# Altium schematic symbol library kmilo17pet-TI_MSP430.SchLib: 1463 symbols (part 30 of 130)
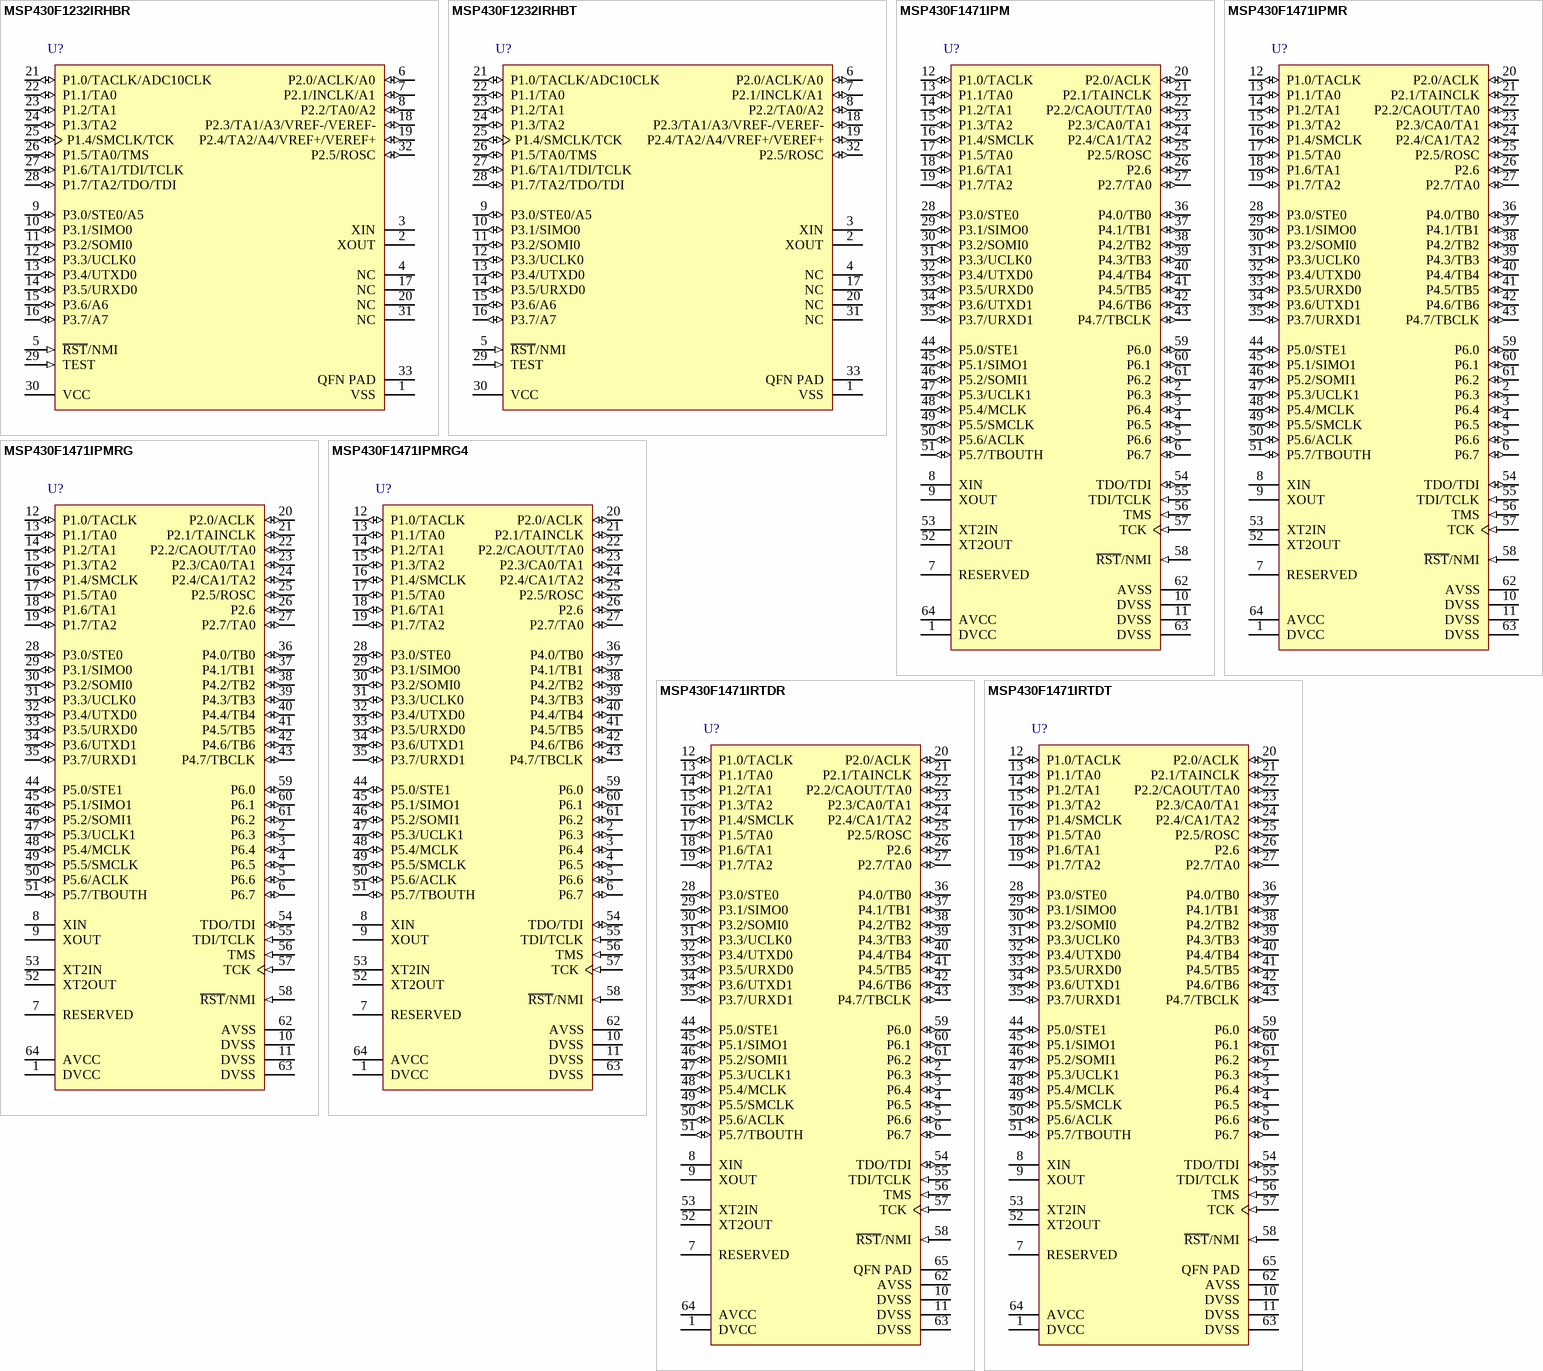
[diagram p351: symbols MSP430F1232IRHBR to MSP430F1471IRTDT]

## MSP430F1232IRHBR
designator U?
8 MHz Mixed Signal Microcontroller with 8 KB Flash, 256 B SRAM and 22 GPIOs, -40 to 85 degC, 32-pin QFN (RHB), Green (RoHS & no Sb/Br); Manufacturer: Texas Instruments; PartNumber: MSP430F1232IRHBR; ADC: 10-bit SAR; ADC Channels: 8; Brown Out Reset: Yes; GPIO: 22; SRAM(B): 256; SubFamily: 1 Series; Timers - 16-bit: 1; DatasheetVersion: SLAS361D; PackageVersion: 4204326/D; PackageReference: RHB32-3450X3450TP; PackageDescription: 32-Pin Plastic Flat Pack, Body 5 x 5 mm, Pitch 0.5 mm; Supplier 1: Digi-Key; Supplier Part Number 1: 296-16795-2-ND; Supplier 2: Digi-Key; Supplier Part Number 2: 296-16795-1-ND; Supplier 3: Digi-Key; Supplier Part Number 3: 296-16795-6-ND; Supplier 4: Farnell; Supplier Part Number 4: 1903424; Supplier 5: Newark; Supplier Part Number 5: 01J0578; Supplier 6: Mouser; Supplier Part Number 6: 595-430F1232IRHBR; Eco-Plan: Green (RoHS & no Sb/Br); Flash(KB): 8; Frequency(MHz): 8; Temp Sensor: Yes; USART: 1; Watchdog: Yes; Mounting Technology: Surface Mount; Code_JEDEC: MO-220; ComponentLink1Description: Manufacturer URL; ComponentLink1URL: http://www.ti.com/; ComponentLink2Description: Datasheet; ComponentLink2URL: http://www.ti.com/general/docs/lit/getliterature.tsp?genericPartNumber=MSP430F1232&fileType=pdf; ComponentLink3Description: Package Specification; ComponentLink3URL: http://www.ti.com/lit/ml/mpqf130c/mpqf130c.pdf
footprint TI-RHB32-3450X3450TP_N (QFN, 32-Leads, Body 5x5mm, Pitch 0.5mm, Thermal Pad 3.45x3.45mm, IPC Medium Density)
pins: 1 VSS (power) "Ground reference", 2 XOUT "Output terminal of crystal oscillator", 3 XIN "Input terminal of crystal oscillator", 4 NC "Not connected internally. Recommended connection to VSS.", 5 ~{RST}/NMI (in), 6 P2.0/ACLK/A0 (io), 7 P2.1/INCLK/A1 (io), 8 P2.2/TA0/A2 (io), 9 P3.0/STE0/A5 (io), 10 P3.1/SIMO0 (io), 11 P3.2/SOMI0 (io), 12 P3.3/UCLK0 (io), 13 P3.4/UTXD0 (io), 14 P3.5/URXD0 (io), 15 P3.6/A6 (io), 16 P3.7/A7 (io), 17 NC "Not connected internally. Recommended connection to VSS.", 18 P2.3/TA1/A3/VREF-/VEREF- (io), 19 P2.4/TA2/A4/VREF+/VEREF+ (io), 20 NC "Not connected internally. Recommended connection to VSS.", 21 P1.0/TACLK/ADC10CLK (io), 22 P1.1/TA0 (io), 23 P1.2/TA1 (io), 24 P1.3/TA2 (io), 25 P1.4/SMCLK/TCK (io), 26 P1.5/TA0/TMS (io), 27 P1.6/TA1/TDI/TCLK (io), 28 P1.7/TA2/TDO/TDI (io), 29 TEST (in) "Selects test mode for JTAG pins on P1.x", 30 VCC (power) "Supply voltage", 31 NC "Not connected internally. Recommended connection to VSS.", 32 P2.5/ROSC (io), 33 QFN PAD (power) "QFN package pad connection to VSS recommended."

## MSP430F1232IRHBT
designator U?
8 MHz Mixed Signal Microcontroller with 8 KB Flash, 256 B SRAM and 22 GPIOs, -40 to 85 degC, 32-pin QFN (RHB), Green (RoHS & no Sb/Br); Manufacturer: Texas Instruments; PartNumber: MSP430F1232IRHBT; ADC: 10-bit SAR; ADC Channels: 8; Brown Out Reset: Yes; GPIO: 22; SRAM(B): 256; SubFamily: 1 Series; Timers - 16-bit: 1; DatasheetVersion: SLAS361D; PackageVersion: 4204326/D; PackageReference: RHB32-3450X3450TP; PackageDescription: 32-Pin Plastic Flat Pack, Body 5 x 5 mm, Pitch 0.5 mm; Supplier 1: Digi-Key; Supplier Part Number 1: 296-26178-2-ND; Supplier 2: Digi-Key; Supplier Part Number 2: 296-26178-1-ND; Supplier 3: Digi-Key; Supplier Part Number 3: 296-26178-6-ND; Supplier 4: Newark; Supplier Part Number 4: 01J0579; Supplier 5: Mouser; Supplier Part Number 5: 595-430F1232IRHBT; Eco-Plan: Green (RoHS & no Sb/Br); Flash(KB): 8; Frequency(MHz): 8; Temp Sensor: Yes; USART: 1; Watchdog: Yes; Mounting Technology: Surface Mount; Code_JEDEC: MO-220; ComponentLink1Description: Manufacturer URL; ComponentLink1URL: http://www.ti.com/; ComponentLink2Description: Datasheet; ComponentLink2URL: http://www.ti.com/general/docs/lit/getliterature.tsp?genericPartNumber=MSP430F1232&fileType=pdf; ComponentLink3Description: Package Specification; ComponentLink3URL: http://www.ti.com/lit/ml/mpqf130c/mpqf130c.pdf
footprint TI-RHB32-3450X3450TP_N (QFN, 32-Leads, Body 5x5mm, Pitch 0.5mm, Thermal Pad 3.45x3.45mm, IPC Medium Density)
pins: 1 VSS (power) "Ground reference", 2 XOUT "Output terminal of crystal oscillator", 3 XIN "Input terminal of crystal oscillator", 4 NC "Not connected internally. Recommended connection to VSS.", 5 ~{RST}/NMI (in), 6 P2.0/ACLK/A0 (io), 7 P2.1/INCLK/A1 (io), 8 P2.2/TA0/A2 (io), 9 P3.0/STE0/A5 (io), 10 P3.1/SIMO0 (io), 11 P3.2/SOMI0 (io), 12 P3.3/UCLK0 (io), 13 P3.4/UTXD0 (io), 14 P3.5/URXD0 (io), 15 P3.6/A6 (io), 16 P3.7/A7 (io), 17 NC "Not connected internally. Recommended connection to VSS.", 18 P2.3/TA1/A3/VREF-/VEREF- (io), 19 P2.4/TA2/A4/VREF+/VEREF+ (io), 20 NC "Not connected internally. Recommended connection to VSS.", 21 P1.0/TACLK/ADC10CLK (io), 22 P1.1/TA0 (io), 23 P1.2/TA1 (io), 24 P1.3/TA2 (io), 25 P1.4/SMCLK/TCK (io), 26 P1.5/TA0/TMS (io), 27 P1.6/TA1/TDI/TCLK (io), 28 P1.7/TA2/TDO/TDI (io), 29 TEST (in) "Selects test mode for JTAG pins on P1.x", 30 VCC (power) "Supply voltage", 31 NC "Not connected internally. Recommended connection to VSS.", 32 P2.5/ROSC (io), 33 QFN PAD (power) "QFN package pad connection to VSS recommended."

## MSP430F1471IPM
designator U?
8 MHz Mixed Signal Microcontroller with 32 KB Flash, 1024 B SRAM and 48 GPIOs, -40 to 85 degC, 64-pin QFP (PM), Green (RoHS & no Sb/Br); Manufacturer: Texas Instruments; PartNumber: MSP430F1471IPM; ADC: Slope; Comparators: Yes; Flash(KB): 32; Frequency(MHz): 8; GPIO: 48; Multiplier: 16x16; SRAM(B): 1024; SubFamily: 1 Series; Timers - 16-bit: 2; DatasheetVersion: SLAS272F; PackageVersion: 4040152/C; PackageReference: PM64; PackageDescription: 64-Pin Plastic Quad Flat Pack, Body 10 x 10 mm, Pitch 0.5 mm; Supplier 1: Digi-Key; Supplier Part Number 1: 296-15701-ND; Supplier 2: Farnell; Supplier Part Number 2: 1537163; Supplier 3: Newark; Supplier Part Number 3: 82H5135; Supplier 4: Mouser; Supplier Part Number 4: 595-430F1471IPM; Eco-Plan: Green (RoHS & no Sb/Br); USART: 2; Watchdog: Yes; Mounting Technology: Surface Mount; Code_JEDEC: MS-026; ComponentLink1Description: Manufacturer URL; ComponentLink1URL: http://www.ti.com/; ComponentLink2Description: Datasheet; ComponentLink2URL: http://www.ti.com/general/docs/lit/getliterature.tsp?genericPartNumber=MSP430F1471&fileType=pdf; ComponentLink3Description: Package Specification; ComponentLink3URL: http://www.ti.com/lit/ml/mtqf008a/mtqf008a.pdf
footprint TI-PM64_N (QFP, 64-Leads, Body 10x10mm, Pitch 0.5mm, IPC Medium Density)
pins: 1 DVCC (power) "Digital supply voltage, positive terminal. Supplies all digital parts.", 2 P6.3 (io) "General-purpose digital I/O pin", 3 P6.4 (io) "General-purpose digital I/O pin", 4 P6.5 (io) "General-purpose digital I/O pin", 5 P6.6 (io) "General-purpose digital I/O pin", 6 P6.7 (io) "General-purpose digital I/O pin", 7 RESERVED "Reserved, do not connect externally", 8 XIN "Input port for crystal oscillator XT1. Standard or watch crystals can be connected.", 9 XOUT "Output terminal of crystal oscillator XT1", 10 DVSS (power) "Connect to DVSS", 11 DVSS (power) "Connect to DVSS", 12 P1.0/TACLK (io), 13 P1.1/TA0 (io), 14 P1.2/TA1 (io), 15 P1.3/TA2 (io), 16 P1.4/SMCLK (io), 17 P1.5/TA0 (io), 18 P1.6/TA1 (io), 19 P1.7/TA2 (io), 20 P2.0/ACLK (io), 21 P2.1/TAINCLK (io), 22 P2.2/CAOUT/TA0 (io), 23 P2.3/CA0/TA1 (io), 24 P2.4/CA1/TA2 (io), 25 P2.5/ROSC (io), 26 P2.6 (io) "General-purpose digital I/O pin", 27 P2.7/TA0 (io), 28 P3.0/STE0 (io), 29 P3.1/SIMO0 (io), 30 P3.2/SOMI0 (io), 31 P3.3/UCLK0 (io), 32 P3.4/UTXD0 (io), 33 P3.5/URXD0 (io), 34 P3.6/UTXD1 (io), 35 P3.7/URXD1 (io), 36 P4.0/TB0 (io), 37 P4.1/TB1 (io), 38 P4.2/TB2 (io), 39 P4.3/TB3 (io), 40 P4.4/TB4 (io), 41 P4.5/TB5 (io), 42 P4.6/TB6 (io), 43 P4.7/TBCLK (io), 44 P5.0/STE1 (io), 45 P5.1/SIMO1 (io), 46 P5.2/SOMI1 (io), 47 P5.3/UCLK1 (io), 48 P5.4/MCLK (io), 49 P5.5/SMCLK (io), 50 P5.6/ACLK (io), 51 P5.7/TBOUTH (io), 52 XT2OUT "Output terminal of crystal oscillator XT2", 53 XT2IN "Input port for crystal oscillator XT2. Only standard crystals can be connected.", 54 TDO/TDI (io), 55 TDI/TCLK (in), 56 TMS (in) "Test mode select. TMS is used as an input port for device programming and test.", 57 TCK (in) "Test clock. TCK is the clock input port for device programming test and bootstrap loader start (in Flash devices).", 58 ~{RST}/NMI (in), 59 P6.0 (io) "General-purpose digital I/O pin", 60 P6.1 (io) "General-purpose digital I/O pin", 61 P6.2 (io) "General-purpose digital I/O pin", 62 AVSS (power) "Analog supply voltage, negative terminal.", 63 DVSS (power) "Digital supply voltage, negative terminal. Supplies all digital parts.", 64 AVCC (power) "Analog supply voltage, positive terminal."

## MSP430F1471IPMR
designator U?
8 MHz Mixed Signal Microcontroller with 32 KB Flash, 1024 B SRAM and 48 GPIOs, -40 to 85 degC, 64-pin QFP (PM), Green (RoHS & no Sb/Br); Manufacturer: Texas Instruments; PartNumber: MSP430F1471IPMR; ADC: Slope; Comparators: Yes; Flash(KB): 32; Frequency(MHz): 8; GPIO: 48; Multiplier: 16x16; SRAM(B): 1024; SubFamily: 1 Series; Timers - 16-bit: 2; DatasheetVersion: SLAS272F; PackageVersion: 4040152/C; PackageReference: PM64; PackageDescription: 64-Pin Plastic Quad Flat Pack, Body 10 x 10 mm, Pitch 0.5 mm; Supplier 1: Digi-Key; Supplier Part Number 1: MSP430F1471IPMR-ND; Supplier 2: Newark; Supplier Part Number 2: 82H5136; Supplier 3: Mouser; Supplier Part Number 3: 595-430F1471IPMR; Eco-Plan: Green (RoHS & no Sb/Br); USART: 2; Watchdog: Yes; Mounting Technology: Surface Mount; Code_JEDEC: MS-026; ComponentLink1Description: Manufacturer URL; ComponentLink1URL: http://www.ti.com/; ComponentLink2Description: Datasheet; ComponentLink2URL: http://www.ti.com/general/docs/lit/getliterature.tsp?genericPartNumber=MSP430F1471&fileType=pdf; ComponentLink3Description: Package Specification; ComponentLink3URL: http://www.ti.com/lit/ml/mtqf008a/mtqf008a.pdf
footprint TI-PM64_N (QFP, 64-Leads, Body 10x10mm, Pitch 0.5mm, IPC Medium Density)
pins: 1 DVCC (power) "Digital supply voltage, positive terminal. Supplies all digital parts.", 2 P6.3 (io) "General-purpose digital I/O pin", 3 P6.4 (io) "General-purpose digital I/O pin", 4 P6.5 (io) "General-purpose digital I/O pin", 5 P6.6 (io) "General-purpose digital I/O pin", 6 P6.7 (io) "General-purpose digital I/O pin", 7 RESERVED "Reserved, do not connect externally", 8 XIN "Input port for crystal oscillator XT1. Standard or watch crystals can be connected.", 9 XOUT "Output terminal of crystal oscillator XT1", 10 DVSS (power) "Connect to DVSS", 11 DVSS (power) "Connect to DVSS", 12 P1.0/TACLK (io), 13 P1.1/TA0 (io), 14 P1.2/TA1 (io), 15 P1.3/TA2 (io), 16 P1.4/SMCLK (io), 17 P1.5/TA0 (io), 18 P1.6/TA1 (io), 19 P1.7/TA2 (io), 20 P2.0/ACLK (io), 21 P2.1/TAINCLK (io), 22 P2.2/CAOUT/TA0 (io), 23 P2.3/CA0/TA1 (io), 24 P2.4/CA1/TA2 (io), 25 P2.5/ROSC (io), 26 P2.6 (io) "General-purpose digital I/O pin", 27 P2.7/TA0 (io), 28 P3.0/STE0 (io), 29 P3.1/SIMO0 (io), 30 P3.2/SOMI0 (io), 31 P3.3/UCLK0 (io), 32 P3.4/UTXD0 (io), 33 P3.5/URXD0 (io), 34 P3.6/UTXD1 (io), 35 P3.7/URXD1 (io), 36 P4.0/TB0 (io), 37 P4.1/TB1 (io), 38 P4.2/TB2 (io), 39 P4.3/TB3 (io), 40 P4.4/TB4 (io), 41 P4.5/TB5 (io), 42 P4.6/TB6 (io), 43 P4.7/TBCLK (io), 44 P5.0/STE1 (io), 45 P5.1/SIMO1 (io), 46 P5.2/SOMI1 (io), 47 P5.3/UCLK1 (io), 48 P5.4/MCLK (io), 49 P5.5/SMCLK (io), 50 P5.6/ACLK (io), 51 P5.7/TBOUTH (io), 52 XT2OUT "Output terminal of crystal oscillator XT2", 53 XT2IN "Input port for crystal oscillator XT2. Only standard crystals can be connected.", 54 TDO/TDI (io), 55 TDI/TCLK (in), 56 TMS (in) "Test mode select. TMS is used as an input port for device programming and test.", 57 TCK (in) "Test clock. TCK is the clock input port for device programming test and bootstrap loader start (in Flash devices).", 58 ~{RST}/NMI (in), 59 P6.0 (io) "General-purpose digital I/O pin", 60 P6.1 (io) "General-purpose digital I/O pin", 61 P6.2 (io) "General-purpose digital I/O pin", 62 AVSS (power) "Analog supply voltage, negative terminal.", 63 DVSS (power) "Digital supply voltage, negative terminal. Supplies all digital parts.", 64 AVCC (power) "Analog supply voltage, positive terminal."

## MSP430F1471IPMRG
designator U?
8 MHz Mixed Signal Microcontroller with 32 KB Flash, 1024 B SRAM and 48 GPIOs, -40 to 85 degC, 64-pin QFP (PM); Manufacturer: Texas Instruments; PartNumber: MSP430F1471IPMRG; ADC: Slope; Comparators: Yes; Flash(KB): 32; Frequency(MHz): 8; GPIO: 48; Multiplier: 16x16; SRAM(B): 1024; SubFamily: 1 Series; Timers - 16-bit: 2; DatasheetVersion: SLAS272F; PackageVersion: 4040152/C; PackageReference: PM64; PackageDescription: 64-Pin Plastic Quad Flat Pack, Body 10 x 10 mm, Pitch 0.5 mm; Supplier 1: Digi-Key; Supplier Part Number 1: MSP430F1471IPMRG-ND; Supplier 2: Mouser; Supplier Part Number 2: 595-MSP430F1471IPMRG; USART: 2; Watchdog: Yes; Mounting Technology: Surface Mount; Code_JEDEC: MS-026; ComponentLink1Description: Manufacturer URL; ComponentLink1URL: http://www.ti.com/; ComponentLink2Description: Datasheet; ComponentLink2URL: http://www.ti.com/general/docs/lit/getliterature.tsp?genericPartNumber=MSP430F1471&fileType=pdf; ComponentLink3Description: Package Specification; ComponentLink3URL: http://www.ti.com/lit/ml/mtqf008a/mtqf008a.pdf
footprint TI-PM64_N (QFP, 64-Leads, Body 10x10mm, Pitch 0.5mm, IPC Medium Density)
pins: 1 DVCC (power) "Digital supply voltage, positive terminal. Supplies all digital parts.", 2 P6.3 (io) "General-purpose digital I/O pin", 3 P6.4 (io) "General-purpose digital I/O pin", 4 P6.5 (io) "General-purpose digital I/O pin", 5 P6.6 (io) "General-purpose digital I/O pin", 6 P6.7 (io) "General-purpose digital I/O pin", 7 RESERVED "Reserved, do not connect externally", 8 XIN "Input port for crystal oscillator XT1. Standard or watch crystals can be connected.", 9 XOUT "Output terminal of crystal oscillator XT1", 10 DVSS (power) "Connect to DVSS", 11 DVSS (power) "Connect to DVSS", 12 P1.0/TACLK (io), 13 P1.1/TA0 (io), 14 P1.2/TA1 (io), 15 P1.3/TA2 (io), 16 P1.4/SMCLK (io), 17 P1.5/TA0 (io), 18 P1.6/TA1 (io), 19 P1.7/TA2 (io), 20 P2.0/ACLK (io), 21 P2.1/TAINCLK (io), 22 P2.2/CAOUT/TA0 (io), 23 P2.3/CA0/TA1 (io), 24 P2.4/CA1/TA2 (io), 25 P2.5/ROSC (io), 26 P2.6 (io) "General-purpose digital I/O pin", 27 P2.7/TA0 (io), 28 P3.0/STE0 (io), 29 P3.1/SIMO0 (io), 30 P3.2/SOMI0 (io), 31 P3.3/UCLK0 (io), 32 P3.4/UTXD0 (io), 33 P3.5/URXD0 (io), 34 P3.6/UTXD1 (io), 35 P3.7/URXD1 (io), 36 P4.0/TB0 (io), 37 P4.1/TB1 (io), 38 P4.2/TB2 (io), 39 P4.3/TB3 (io), 40 P4.4/TB4 (io), 41 P4.5/TB5 (io), 42 P4.6/TB6 (io), 43 P4.7/TBCLK (io), 44 P5.0/STE1 (io), 45 P5.1/SIMO1 (io), 46 P5.2/SOMI1 (io), 47 P5.3/UCLK1 (io), 48 P5.4/MCLK (io), 49 P5.5/SMCLK (io), 50 P5.6/ACLK (io), 51 P5.7/TBOUTH (io), 52 XT2OUT "Output terminal of crystal oscillator XT2", 53 XT2IN "Input port for crystal oscillator XT2. Only standard crystals can be connected.", 54 TDO/TDI (io), 55 TDI/TCLK (in), 56 TMS (in) "Test mode select. TMS is used as an input port for device programming and test.", 57 TCK (in) "Test clock. TCK is the clock input port for device programming test and bootstrap loader start (in Flash devices).", 58 ~{RST}/NMI (in), 59 P6.0 (io) "General-purpose digital I/O pin", 60 P6.1 (io) "General-purpose digital I/O pin", 61 P6.2 (io) "General-purpose digital I/O pin", 62 AVSS (power) "Analog supply voltage, negative terminal.", 63 DVSS (power) "Digital supply voltage, negative terminal. Supplies all digital parts.", 64 AVCC (power) "Analog supply voltage, positive terminal."

## MSP430F1471IPMRG4
designator U?
8 MHz Mixed Signal Microcontroller with 32 KB Flash, 1024 B SRAM and 48 GPIOs, -40 to 85 degC, 64-pin QFP (PM), Green (RoHS & no Sb/Br); Manufacturer: Texas Instruments; PartNumber: MSP430F1471IPMRG4; ADC: Slope; Comparators: Yes; Flash(KB): 32; Frequency(MHz): 8; GPIO: 48; Multiplier: 16x16; SRAM(B): 1024; SubFamily: 1 Series; Timers - 16-bit: 2; DatasheetVersion: SLAS272F; PackageVersion: 4040152/C; PackageReference: PM64; PackageDescription: 64-Pin Plastic Quad Flat Pack, Body 10 x 10 mm, Pitch 0.5 mm; Supplier 1: Digi-Key; Supplier Part Number 1: MSP430F1471IPMRG4-ND; Supplier 2: Mouser; Supplier Part Number 2: 595-MSP430F1471IPMG4; Eco-Plan: Green (RoHS & no Sb/Br); USART: 2; Watchdog: Yes; Mounting Technology: Surface Mount; Code_JEDEC: MS-026; ComponentLink1Description: Manufacturer URL; ComponentLink1URL: http://www.ti.com/; ComponentLink2Description: Datasheet; ComponentLink2URL: http://www.ti.com/general/docs/lit/getliterature.tsp?genericPartNumber=MSP430F1471&fileType=pdf; ComponentLink3Description: Package Specification; ComponentLink3URL: http://www.ti.com/lit/ml/mtqf008a/mtqf008a.pdf
footprint TI-PM64_N (QFP, 64-Leads, Body 10x10mm, Pitch 0.5mm, IPC Medium Density)
pins: 1 DVCC (power) "Digital supply voltage, positive terminal. Supplies all digital parts.", 2 P6.3 (io) "General-purpose digital I/O pin", 3 P6.4 (io) "General-purpose digital I/O pin", 4 P6.5 (io) "General-purpose digital I/O pin", 5 P6.6 (io) "General-purpose digital I/O pin", 6 P6.7 (io) "General-purpose digital I/O pin", 7 RESERVED "Reserved, do not connect externally", 8 XIN "Input port for crystal oscillator XT1. Standard or watch crystals can be connected.", 9 XOUT "Output terminal of crystal oscillator XT1", 10 DVSS (power) "Connect to DVSS", 11 DVSS (power) "Connect to DVSS", 12 P1.0/TACLK (io), 13 P1.1/TA0 (io), 14 P1.2/TA1 (io), 15 P1.3/TA2 (io), 16 P1.4/SMCLK (io), 17 P1.5/TA0 (io), 18 P1.6/TA1 (io), 19 P1.7/TA2 (io), 20 P2.0/ACLK (io), 21 P2.1/TAINCLK (io), 22 P2.2/CAOUT/TA0 (io), 23 P2.3/CA0/TA1 (io), 24 P2.4/CA1/TA2 (io), 25 P2.5/ROSC (io), 26 P2.6 (io) "General-purpose digital I/O pin", 27 P2.7/TA0 (io), 28 P3.0/STE0 (io), 29 P3.1/SIMO0 (io), 30 P3.2/SOMI0 (io), 31 P3.3/UCLK0 (io), 32 P3.4/UTXD0 (io), 33 P3.5/URXD0 (io), 34 P3.6/UTXD1 (io), 35 P3.7/URXD1 (io), 36 P4.0/TB0 (io), 37 P4.1/TB1 (io), 38 P4.2/TB2 (io), 39 P4.3/TB3 (io), 40 P4.4/TB4 (io), 41 P4.5/TB5 (io), 42 P4.6/TB6 (io), 43 P4.7/TBCLK (io), 44 P5.0/STE1 (io), 45 P5.1/SIMO1 (io), 46 P5.2/SOMI1 (io), 47 P5.3/UCLK1 (io), 48 P5.4/MCLK (io), 49 P5.5/SMCLK (io), 50 P5.6/ACLK (io), 51 P5.7/TBOUTH (io), 52 XT2OUT "Output terminal of crystal oscillator XT2", 53 XT2IN "Input port for crystal oscillator XT2. Only standard crystals can be connected.", 54 TDO/TDI (io), 55 TDI/TCLK (in), 56 TMS (in) "Test mode select. TMS is used as an input port for device programming and test.", 57 TCK (in) "Test clock. TCK is the clock input port for device programming test and bootstrap loader start (in Flash devices).", 58 ~{RST}/NMI (in), 59 P6.0 (io) "General-purpose digital I/O pin", 60 P6.1 (io) "General-purpose digital I/O pin", 61 P6.2 (io) "General-purpose digital I/O pin", 62 AVSS (power) "Analog supply voltage, negative terminal.", 63 DVSS (power) "Digital supply voltage, negative terminal. Supplies all digital parts.", 64 AVCC (power) "Analog supply voltage, positive terminal."

## MSP430F1471IRTDR
designator U?
8 MHz Mixed Signal Microcontroller with 32 KB Flash, 1024 B SRAM and 48 GPIOs, 64-pin QFN (RTD), Green (RoHS & no Sb/Br); Manufacturer: Texas Instruments; PartNumber: MSP430F1471IRTDR; ADC: Slope; Comparators: Yes; Flash(KB): 32; Frequency(MHz): 8; GPIO: 48; Multiplier: 16x16; SRAM(B): 1024; SubFamily: 1 Series; Timers - 16-bit: 2; DatasheetVersion: SLAS272F; PackageReference: RTD64; PackageDescription: 64-Pin Plastic Flat Pack, Body 9 x 9 mm, Pitch 0.5 mm; Supplier 1: Digi-Key; Supplier Part Number 1: MSP430F1471IRTDR-ND; Supplier 2: Newark; Supplier Part Number 2: 21J8833; Supplier 3: Mouser; Supplier Part Number 3: 595-MSP430F1471IRTDR; Eco-Plan: Green (RoHS & no Sb/Br); USART: 2; Watchdog: Yes; Mounting Technology: Surface Mount; ComponentLink1Description: Manufacturer URL; ComponentLink1URL: http://www.ti.com/; ComponentLink2Description: Datasheet; ComponentLink2URL: http://www.ti.com/general/docs/lit/getliterature.tsp?genericPartNumber=MSP430F1471&fileType=pdf; ComponentLink3Description: Package Specification; ComponentLink3URL: http://www.ti.com/lit/ds/symlink/msp430f1471.pdf
footprint TI-RTD64-4700X4700TP_N (QFN, 64-Leads, Body 9x9mm, Pitch 0.5mm, Thermal Pad 4.7x4.7mm, IPC Medium Density)
pins: 1 DVCC (power) "Digital supply voltage, positive terminal. Supplies all digital parts.", 2 P6.3 (io) "General-purpose digital I/O pin", 3 P6.4 (io) "General-purpose digital I/O pin", 4 P6.5 (io) "General-purpose digital I/O pin", 5 P6.6 (io) "General-purpose digital I/O pin", 6 P6.7 (io) "General-purpose digital I/O pin", 7 RESERVED "Reserved, do not connect externally", 8 XIN "Input port for crystal oscillator XT1. Standard or watch crystals can be connected.", 9 XOUT "Output terminal of crystal oscillator XT1", 10 DVSS (power) "Connect to DVSS", 11 DVSS (power) "Connect to DVSS", 12 P1.0/TACLK (io), 13 P1.1/TA0 (io), 14 P1.2/TA1 (io), 15 P1.3/TA2 (io), 16 P1.4/SMCLK (io), 17 P1.5/TA0 (io), 18 P1.6/TA1 (io), 19 P1.7/TA2 (io), 20 P2.0/ACLK (io), 21 P2.1/TAINCLK (io), 22 P2.2/CAOUT/TA0 (io), 23 P2.3/CA0/TA1 (io), 24 P2.4/CA1/TA2 (io), 25 P2.5/ROSC (io), 26 P2.6 (io) "General-purpose digital I/O pin", 27 P2.7/TA0 (io), 28 P3.0/STE0 (io), 29 P3.1/SIMO0 (io), 30 P3.2/SOMI0 (io), 31 P3.3/UCLK0 (io), 32 P3.4/UTXD0 (io), 33 P3.5/URXD0 (io), 34 P3.6/UTXD1 (io), 35 P3.7/URXD1 (io), 36 P4.0/TB0 (io), 37 P4.1/TB1 (io), 38 P4.2/TB2 (io), 39 P4.3/TB3 (io), 40 P4.4/TB4 (io), 41 P4.5/TB5 (io), 42 P4.6/TB6 (io), 43 P4.7/TBCLK (io), 44 P5.0/STE1 (io), 45 P5.1/SIMO1 (io), 46 P5.2/SOMI1 (io), 47 P5.3/UCLK1 (io), 48 P5.4/MCLK (io), 49 P5.5/SMCLK (io), 50 P5.6/ACLK (io), 51 P5.7/TBOUTH (io), 52 XT2OUT "Output terminal of crystal oscillator XT2", 53 XT2IN "Input port for crystal oscillator XT2. Only standard crystals can be connected.", 54 TDO/TDI (io), 55 TDI/TCLK (in), 56 TMS (in) "Test mode select. TMS is used as an input port for device programming and test.", 57 TCK (in) "Test clock. TCK is the clock input port for device programming test and bootstrap loader start (in Flash devices).", 58 ~{RST}/NMI (in), 59 P6.0 (io) "General-purpose digital I/O pin", 60 P6.1 (io) "General-purpose digital I/O pin", 61 P6.2 (io) "General-purpose digital I/O pin", 62 AVSS (power) "Analog supply voltage, negative terminal. Supplies the analog portion of the analog-to-digital converter.", 63 DVSS (power) "Digital supply voltage, negative terminal. Supplies all digital parts.", 64 AVCC (power) "Analog supply voltage, positive terminal. Supplies the analog portion of the analog-to-digital converter.", 65 QFN PAD (power) "QFN package pad connection to DVSS recommended."

## MSP430F1471IRTDT
designator U?
8 MHz Mixed Signal Microcontroller with 32 KB Flash, 1024 B SRAM and 48 GPIOs, 64-pin QFN (RTD), Green (RoHS & no Sb/Br); Manufacturer: Texas Instruments; PartNumber: MSP430F1471IRTDT; ADC: Slope; Comparators: Yes; Flash(KB): 32; Frequency(MHz): 8; GPIO: 48; Multiplier: 16x16; SRAM(B): 1024; SubFamily: 1 Series; Timers - 16-bit: 2; DatasheetVersion: SLAS272F; PackageReference: RTD64; PackageDescription: 64-Pin Plastic Flat Pack, Body 9 x 9 mm, Pitch 0.5 mm; Supplier 1: Digi-Key; Supplier Part Number 1: 296-17143-2-ND; Supplier 2: Digi-Key; Supplier Part Number 2: 296-17143-1-ND; Supplier 3: Digi-Key; Supplier Part Number 3: 296-17143-6-ND; Supplier 4: Farnell; Supplier Part Number 4: 1537164; Supplier 5: Farnell; Supplier Part Number 5: 1899534; Supplier 6: Newark; Supplier Part Number 6: 21J8834; Supplier 7: Mouser; Supplier Part Number 7: 595-MSP430F1471IRTDT; Eco-Plan: Green (RoHS & no Sb/Br); USART: 2; Watchdog: Yes; Mounting Technology: Surface Mount; ComponentLink1Description: Manufacturer URL; ComponentLink1URL: http://www.ti.com/; ComponentLink2Description: Datasheet; ComponentLink2URL: http://www.ti.com/general/docs/lit/getliterature.tsp?genericPartNumber=MSP430F1471&fileType=pdf; ComponentLink3Description: Package Specification; ComponentLink3URL: http://www.ti.com/lit/ds/symlink/msp430f1471.pdf
footprint TI-RTD64-4700X4700TP_N (QFN, 64-Leads, Body 9x9mm, Pitch 0.5mm, Thermal Pad 4.7x4.7mm, IPC Medium Density)
pins: 1 DVCC (power) "Digital supply voltage, positive terminal. Supplies all digital parts.", 2 P6.3 (io) "General-purpose digital I/O pin", 3 P6.4 (io) "General-purpose digital I/O pin", 4 P6.5 (io) "General-purpose digital I/O pin", 5 P6.6 (io) "General-purpose digital I/O pin", 6 P6.7 (io) "General-purpose digital I/O pin", 7 RESERVED "Reserved, do not connect externally", 8 XIN "Input port for crystal oscillator XT1. Standard or watch crystals can be connected.", 9 XOUT "Output terminal of crystal oscillator XT1", 10 DVSS (power) "Connect to DVSS", 11 DVSS (power) "Connect to DVSS", 12 P1.0/TACLK (io), 13 P1.1/TA0 (io), 14 P1.2/TA1 (io), 15 P1.3/TA2 (io), 16 P1.4/SMCLK (io), 17 P1.5/TA0 (io), 18 P1.6/TA1 (io), 19 P1.7/TA2 (io), 20 P2.0/ACLK (io), 21 P2.1/TAINCLK (io), 22 P2.2/CAOUT/TA0 (io), 23 P2.3/CA0/TA1 (io), 24 P2.4/CA1/TA2 (io), 25 P2.5/ROSC (io), 26 P2.6 (io) "General-purpose digital I/O pin", 27 P2.7/TA0 (io), 28 P3.0/STE0 (io), 29 P3.1/SIMO0 (io), 30 P3.2/SOMI0 (io), 31 P3.3/UCLK0 (io), 32 P3.4/UTXD0 (io), 33 P3.5/URXD0 (io), 34 P3.6/UTXD1 (io), 35 P3.7/URXD1 (io), 36 P4.0/TB0 (io), 37 P4.1/TB1 (io), 38 P4.2/TB2 (io), 39 P4.3/TB3 (io), 40 P4.4/TB4 (io), 41 P4.5/TB5 (io), 42 P4.6/TB6 (io), 43 P4.7/TBCLK (io), 44 P5.0/STE1 (io), 45 P5.1/SIMO1 (io), 46 P5.2/SOMI1 (io), 47 P5.3/UCLK1 (io), 48 P5.4/MCLK (io), 49 P5.5/SMCLK (io), 50 P5.6/ACLK (io), 51 P5.7/TBOUTH (io), 52 XT2OUT "Output terminal of crystal oscillator XT2", 53 XT2IN "Input port for crystal oscillator XT2. Only standard crystals can be connected.", 54 TDO/TDI (io), 55 TDI/TCLK (in), 56 TMS (in) "Test mode select. TMS is used as an input port for device programming and test.", 57 TCK (in) "Test clock. TCK is the clock input port for device programming test and bootstrap loader start (in Flash devices).", 58 ~{RST}/NMI (in), 59 P6.0 (io) "General-purpose digital I/O pin", 60 P6.1 (io) "General-purpose digital I/O pin", 61 P6.2 (io) "General-purpose digital I/O pin", 62 AVSS (power) "Analog supply voltage, negative terminal. Supplies the analog portion of the analog-to-digital converter.", 63 DVSS (power) "Digital supply voltage, negative terminal. Supplies all digital parts.", 64 AVCC (power) "Analog supply voltage, positive terminal. Supplies the analog portion of the analog-to-digital converter.", 65 QFN PAD (power) "QFN package pad connection to DVSS recommended."

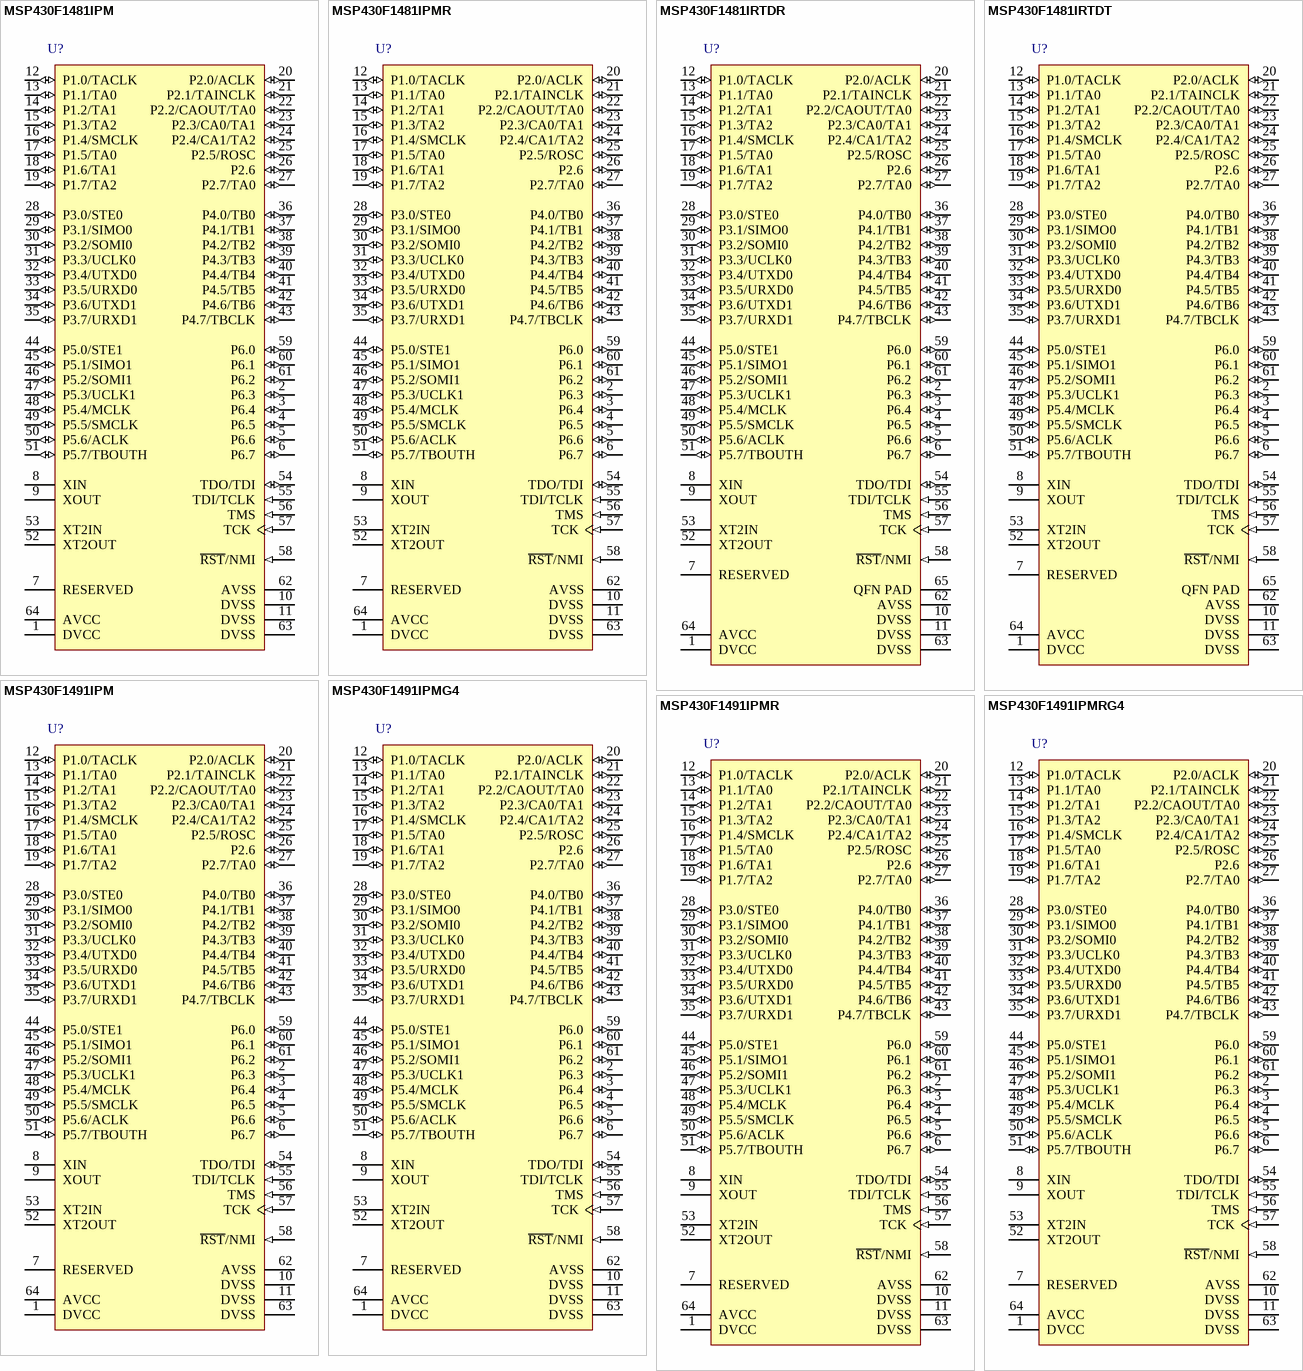
[diagram p44: symbols MSP430F1481IPM to MSP430F1491IPMRG4]